# Altium schematic symbol library Diode_Wurth_Electronics_150080SS75000_eec.SchLib: 1 symbol
Pins are listed as number, name and electrical type; pins without a type are passive.

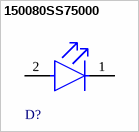
[diagram p0: symbol 150080SS75000]

## 150080SS75000
designator D?  (value not drawn)
footprint Type 3mm Green (THT, LED-3mm, 2pin- Body 4.15mm(max))
footprint Type 3mm Blue (THT, LED-3mm, 2pin- Body 4.15mm(max))
footprint Type 3mm Yellow (THT, LED-3mm, 2pin- Body 4.15mm(max))
footprint Type 3mm_RED (THT, LED-3mm, 2pin- Body 4.15mm(max))
footprint Type 3mm White (THT, LED-3mm, 2pin- Body 4.15mm(max))
pins: 1 C, 2 A